# Altium footprint library PWR578A.PcbLib: 62 footprints (part 4 of 4)
Each footprint in its own frame and in the unit in brackets; x right, y up, seen from the top. Pads: shape width x height; smd on the part's side, far side on the other; paste and mask are expansions set on the pad; w line width, h text height; cw(c..) or ccw(c..) is an arc to the next point about the centre after c.
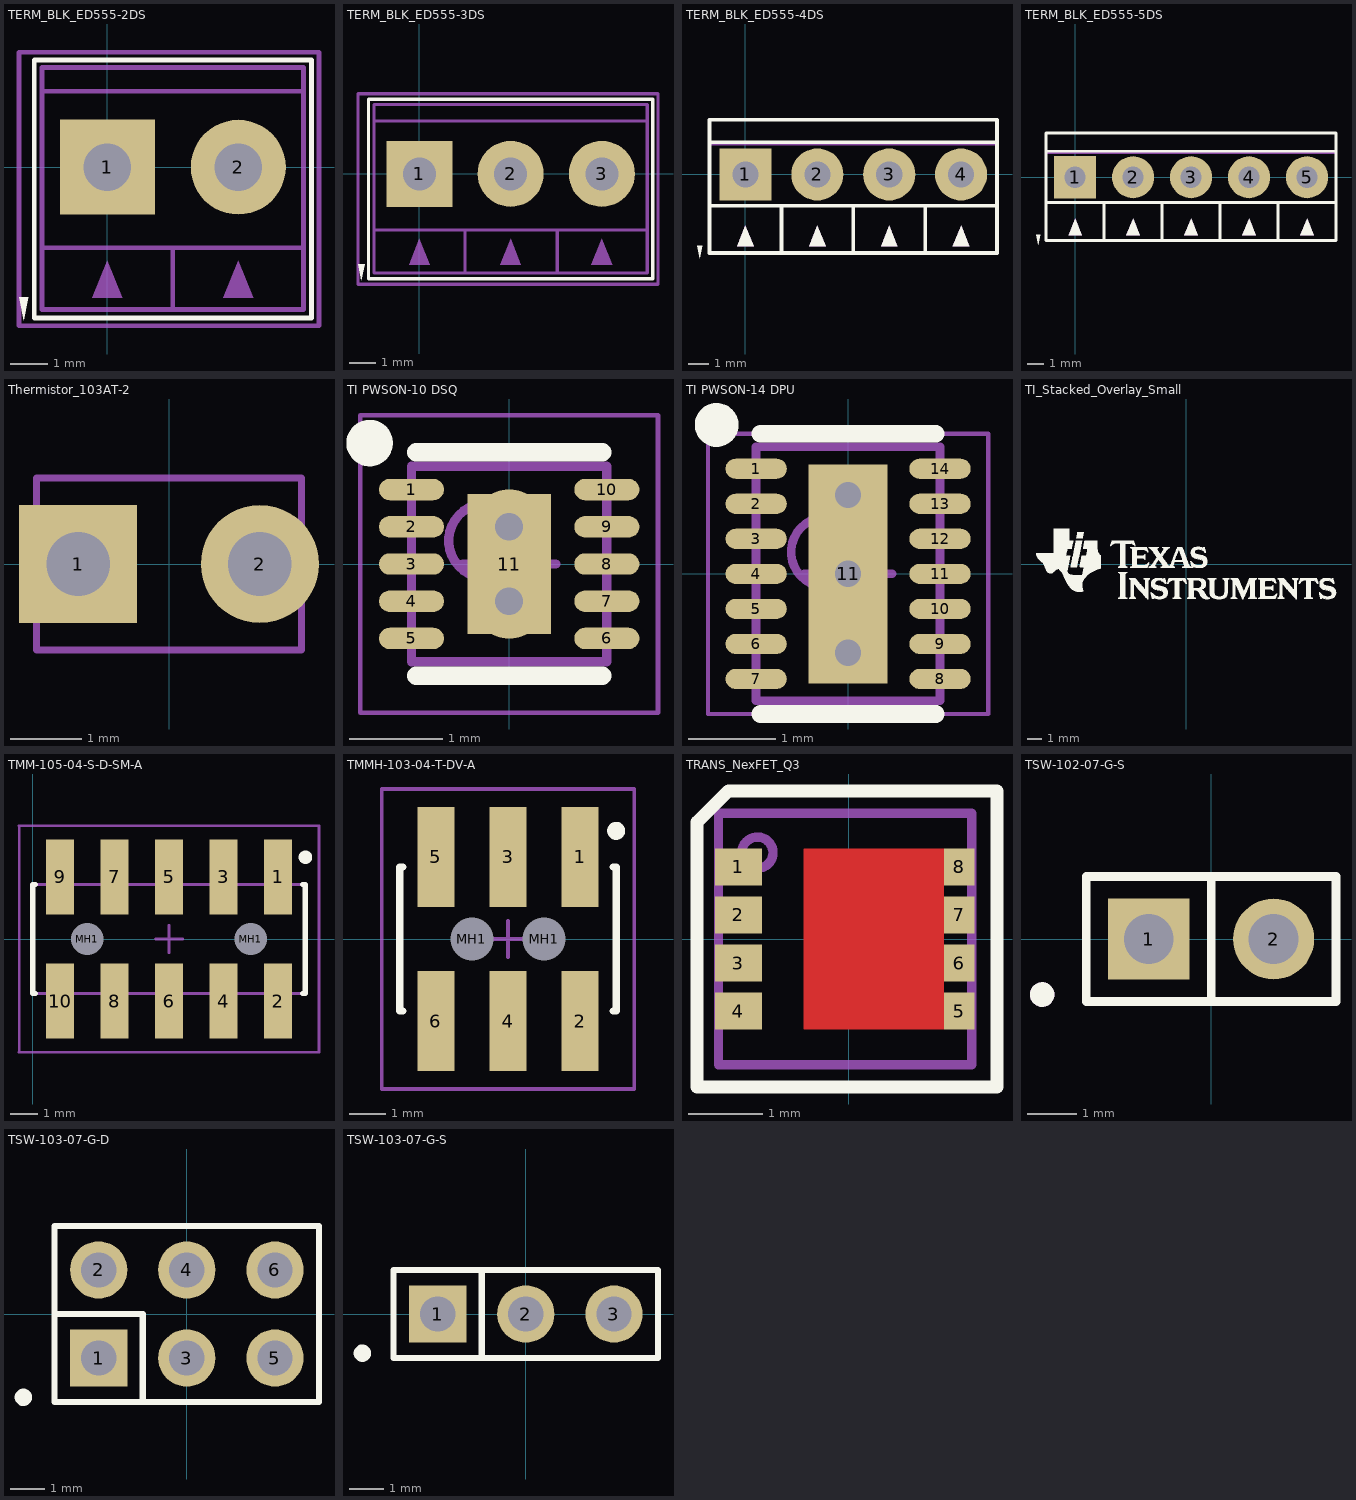
[diagram p3: the footprints below, top view; thin cyan lines are the x and y axes]

## TERM_BLK_ED555-2DS [mil]
pads (2):
  rect 100x100 hole 50: 1(0,0)
  round 100 hole 50: 2(138,0)
Top Overlay:
  region: -88,-161 -83,-137 -93,-137
  lines w5: -77,-159 215,-159 215,113 -77,113 -77,-159
Mechanical 5:
  region: 153.54,-137.8 122.05,-137.8 137.8,-98.43
  region: 15.75,-137.8 -15.75,-137.8 0,-98.43
  lines w5: -68.9,-85 206.69,-85 ; -68.9,80 206.69,80 ; 68.9,-150.2 68.9,-85 ; -68.9,-150 206.69,-150 206.69,105 -68.9,105 -68.9,-150
  text ".Designator" at -23.62,-23.62 h40
Mechanical 15:
  lines w5: -93,-167 223,-167 223,121 -93,121 -93,-167
3D body "On-Shore_ED555_2DS.stp": height 323.43, standoff -137.2, extent -68.7,-149.61 206.89,106.29

## TERM_BLK_ED555-3DS [mil]
pads (3):
  rect 100x100 hole 50: 1(0,0)
  round 100 hole 50: 2(138,0) 3(276,0)
Top Overlay:
  region: -88,-161 -83,-137 -93,-137
  lines w5: -77,-159 -77,113 352.99,113 352.99,-159 215,-159 -77,-159
Mechanical 5:
  region: 291.54,-137.8 260.05,-137.8 275.8,-98.43
  region: 15.75,-137.8 -15.75,-137.8 0,-98.43
  region: 153.54,-137.8 122.05,-137.8 137.8,-98.43
  lines w5: -68.9,-85 208.66,-85 ; -68.9,80 343.15,80 ; 68.9,-150.2 68.9,-85 ; 344.15,-85 208.66,-85 ; 208.66,-150 208.66,-85 ; 208.66,-150 -68.9,-150 -68.9,105 344.69,105 344.69,-150 208.66,-150
  text ".Designator" at -23.62,-23.62 h40
Mechanical 15:
  lines w5: -93,-167 -93,121 360.99,121 360.99,-167 -93,-167
3D body "On-Shore_ED555_2DS.stp": height 323.43, standoff -137.2, extent -68.7,-149.61 206.89,106.29
3D body "On-Shore_ED555_2DS.stp": height 323.43, standoff -137.2, extent 69.29,-149.62 344.88,106.28

## TERM_BLK_ED555-4DS [mm]
pads (4):
  rect 2.54x2.54 hole 1.27: 1(0,0)
  round 2.54 hole 1.27: 2(3.5,0) 3(7,0) 4(10.5,0)
Top Overlay:
  region: 0.4,-3.5 -0.4,-3.5 0,-2.5
  region: 3.9,-3.5 3.1,-3.5 3.5,-2.5
  region: -2.235,-4.089 -2.108,-3.48 -2.362,-3.48
  region: 7.4,-3.5 6.6,-3.5 7,-2.5
  region: 10.9,-3.5 10.1,-3.5 10.5,-2.5
  lines w0.178: -1.752,1.572 1.748,1.572 5.248,1.572 8.748,1.572 12.248,1.572 ; 1.75,-3.815 1.75,-1.528 ; 5.25,-3.815 5.25,-1.528 ; 5.25,-3.81 -1.75,-3.81 -1.75,2.667 5.25,2.667 ; 12.248,-3.828 8.748,-3.828 ; 12.248,-1.528 8.748,-1.528 ; 12.248,2.672 8.748,2.672 5.248,2.672 1.748,2.672 -1.752,2.672 -1.752,1.472 -1.752,-1.528 ; 12.25,-3.815 12.25,-1.528 12.25,1.472 12.25,2.672 ; -1.752,-1.528 1.748,-1.528 5.248,-1.528 8.748,-1.528 ; -1.752,-1.528 -1.752,-3.828 1.748,-3.828 5.248,-3.828 8.748,-3.828 ; 8.748,-3.828 8.748,-1.528 ; 8.748,-3.828 8.748,-1.528
Mechanical 5:
  region: 0.4,-3.5 -0.4,-3.5 0,-2.5
  region: 7.4,-3.5 6.6,-3.5 7,-2.5
  region: 3.9,-3.5 3.1,-3.5 3.5,-2.5
  region: 10.9,-3.5 10.1,-3.5 10.5,-2.5
  lines w0.127: 1.75,-3.815 1.75,-1.528 ; 5.25,-3.815 5.25,-1.528 ; 5.25,-3.81 -1.75,-3.81 -1.75,2.667 5.25,2.667 ; 8.75,-3.81 12.248,-3.81 ; 8.75,2.667 12.248,2.667 ; 12.248,-3.828 8.748,-3.828 ; 12.248,-1.528 8.748,-1.528 ; 12.248,1.472 8.748,1.472 5.248,1.472 1.748,1.472 -1.752,1.472 ; 12.248,2.672 8.748,2.672 5.248,2.672 1.748,2.672 -1.752,2.672 -1.752,1.472 ; 12.25,-3.815 12.25,-1.528 12.25,1.472 12.25,2.672 ; -1.752,-1.528 -1.752,1.472 ; -1.752,-1.528 1.748,-1.528 5.248,-1.528 8.748,-1.528 ; -1.752,-1.528 -1.752,-3.828 1.748,-3.828 5.248,-3.828 8.748,-3.828 ; 8.748,-3.828 8.748,-1.528
  text ".Designator" at 0.3,-0.3 h1.02
3D body "On-Shore_ED555_4DS.stp": height 8.2, standoff -3.5, extent -1.745,-3.8 12.255,2.7

## TERM_BLK_ED555-5DS [mm]
pads (5):
  rect 2.54x2.54 hole 1.27: 1(0,0)
  round 2.54 hole 1.27: 2(3.5,0) 3(7,0) 4(10.5,0) 5(14,0)
Top Overlay:
  region: 14.4,-3.5 13.6,-3.5 14,-2.5
  region: 7.4,-3.5 6.6,-3.5 7,-2.5
  region: 10.9,-3.5 10.1,-3.5 10.5,-2.5
  region: 3.9,-3.5 3.1,-3.5 3.5,-2.5
  region: -2.235,-4.089 -2.108,-3.48 -2.362,-3.48
  region: 0.4,-3.5 -0.4,-3.5 0,-2.5
  lines w0.178: -1.752,1.572 1.748,1.572 5.248,1.572 8.748,1.572 12.248,1.572 15.748,1.572 ; 1.75,-3.815 1.75,-1.528 ; 5.25,-3.815 5.25,-1.528 ; 5.25,-3.81 -1.75,-3.81 -1.75,2.667 5.25,2.667 ; 8.75,-3.81 15.75,-3.81 ; 8.75,2.667 15.75,2.667 ; 12.25,-3.815 12.25,-1.528 ; 15.748,-3.828 12.248,-3.828 8.748,-3.828 ; 15.748,-1.528 12.248,-1.528 8.748,-1.528 ; 15.748,2.672 12.248,2.672 8.748,2.672 5.248,2.672 1.748,2.672 -1.752,2.672 -1.752,1.472 -1.752,-1.528 ; 15.75,-3.815 15.75,-1.528 15.75,1.472 15.75,2.672 ; -1.752,-1.528 -1.752,-3.828 1.748,-3.828 5.248,-3.828 8.748,-3.828 ; -1.752,-1.528 1.748,-1.528 5.248,-1.528 8.748,-1.528 ; 8.748,-3.828 8.748,-1.528 ; 8.748,-3.828 8.748,-1.528
Mechanical 5:
  region: 14.4,-3.5 13.6,-3.5 14,-2.5
  region: 10.9,-3.5 10.1,-3.5 10.5,-2.5
  region: 7.4,-3.5 6.6,-3.5 7,-2.5
  region: 3.9,-3.5 3.1,-3.5 3.5,-2.5
  region: 0.4,-3.5 -0.4,-3.5 0,-2.5
  lines w0.127: 1.75,-3.815 1.75,-1.528 ; 5.25,-3.815 5.25,-1.528 ; 5.25,-3.81 -1.75,-3.81 -1.75,2.667 5.25,2.667 ; 8.75,-3.81 15.75,-3.81 ; 8.75,2.667 15.75,2.667 ; 12.25,-3.815 12.25,-1.528 ; 15.748,-3.828 12.248,-3.828 8.748,-3.828 ; 15.748,-1.528 12.248,-1.528 8.748,-1.528 ; 15.748,1.472 12.248,1.472 8.748,1.472 5.248,1.472 1.748,1.472 -1.752,1.472 ; 15.748,2.672 12.248,2.672 8.748,2.672 5.248,2.672 1.748,2.672 -1.752,2.672 -1.752,1.472 ; 15.75,-3.815 15.75,-1.528 15.75,1.472 15.75,2.672 ; -1.752,-1.528 -1.752,-3.828 1.748,-3.828 5.248,-3.828 8.748,-3.828 ; -1.752,-1.528 1.748,-1.528 5.248,-1.528 8.748,-1.528 ; -1.752,-1.528 -1.752,1.472 ; 8.748,-3.828 8.748,-1.528
  text ".Designator" at 0.3,-0.3 h1.02
3D body "On-Shore_ED555_5DS.stp": height 8.2, standoff -3.5, extent -1.745,-3.8 15.755,2.7

## Thermistor_103AT-2 [mil]
pads (2):
  rect 65x65 hole 35: 1(-50,0)
  round 65 hole 35: 2(50,0)
Mechanical 5:
  lines w3.94: -72.83,-47.24 72.83,-47.24 72.83,47.24 -72.83,47.24 -72.83,-47.24
  text ".Designator" at -69.88,-16.73 h30
3D body: height 236.22, standoff -78.74, extent 40.18,-9.82 59.82,9.82
3D body: height 236.22, standoff -78.74, extent -59.82,-9.82 -40.18,9.82
3D body: height 338.43, standoff 181.26, extent -78.11,-47.24 78.75,47.24

## TI PWSON-10 DSQ [mm] "DFN, 10-Leads, Body 2.00x2.00mm, Pitch 0.40mm, Thermal Pad 0.70x1.20mm, IPC Medium Density"
height 0.8
pads (11):
  oval 0.7x0.23 smd: 1(-1.05,0.8) 2(-1.05,0.4) 3(-1.05,0) 4(-1.05,-0.4) 5(-1.05,-0.8) 6(1.05,-0.8) 7(1.05,-0.4) 8(1.05,0) 9(1.05,0.4) 10(1.05,0.8)
  rect 0.9x1.5 smd mask-0.15: 11(0,0)
via 0,0.4 diameter 0.8 hole 0.3
via 0,-0.4 diameter 0.8 hole 0.3
Top Overlay:
  circle w0.25: c-1.5,1.3 r0.125
  lines w0.2: -1,-1.2 1,-1.2 ; -1,1.2 1,1.2
Mechanical 13:
  circle w0.1: c-0.25,0.25 r0.4
  lines w0.1: -1.05,-1.05 1.05,-1.05 1.05,1.05 -1.05,1.05 -1.05,-1.05
Mechanical 15:
  lines w0.05: -1.6,-1.6 1.6,-1.6 1.6,1.6 -1.6,1.6 -1.6,-1.6
  lines w0.1: -0.5,0 0.5,0 ; 0,-0.5 0,0.5
3D body: height 0.8, standoff 0.01, extent -1.05,-1.05 1.05,1.05

## TI PWSON-14 DPU [mm] "DPU, 14-Leads, Body 3.10x2.10mm, Pitch 0.40mm, Thermal Pad 2.50x0.90mm, IPC Medium Density"
height 0.8
pads (15):
  oval 0.7x0.23 smd: 1(-1.05,1.2) 2(-1.05,0.8) 3(-1.05,0.4) 4(-1.05,0) 5(-1.05,-0.4) 6(-1.05,-0.8) 7(-1.05,-1.2) 8(1.05,-1.2) 9(1.05,-0.8) 10(1.05,-0.4) 11(1.05,0) 12(1.05,0.4) 13(1.05,0.8) 14(1.05,1.2)
  rect 0.9x2.5 smd mask-0.15: 11(0,0)
via 0,0.9 diameter 0.7 hole 0.3
via 0,-0.9 diameter 0.7 hole 0.3
via 0,0 diameter 0.7 hole 0.3
Top Overlay:
  circle w0.25: c-1.5,1.7 r0.125
  lines w0.2: -1,-1.6 1,-1.6 ; -1,1.6 1,1.6
Mechanical 13:
  circle w0.1: c-0.25,0.25 r0.4
  lines w0.1: -1.05,-1.45 1.05,-1.45 1.05,1.45 -1.05,1.45 -1.05,-1.45
Mechanical 15:
  lines w0.05: -1.6,-1.6 1.6,-1.6 1.6,1.6 -1.6,1.6 -1.6,-1.6
  lines w0.1: -0.5,0 0.5,0 ; 0,-0.5 0,0.5
3D body: height 0.8, standoff 0.01, extent -1.05,-1.5 1.05,1.5

## TI_Stacked_Overlay_Small [mm]
Top Overlay:
  drawing of 18 lines, arcs and shapes, not listed

## TMM-105-04-S-D-SM-A [mm] "Connector, Socket Strip, Double Row, SMT, 10 Position, Vertical, Pitch 2mm, Body 10 x 4 mm (LxW)"
height 3.56
pads (12):
  rect 1.02x2.77 smd: 1(9,2.275) 2(9,-2.275) 3(7,2.275) 4(7,-2.275) 5(5,2.275) 6(5,-2.275) 7(3,2.275) 8(3,-2.275) 9(1,2.275) 10(1,-2.275)
  round 0.89 hole 1.19: MH1(2,0) MH1(7.999,0)
Top Overlay:
  circle w0.25: c10,3 r0.125
  lines w0.2: 0.09,-2 0,-2 0,2 0.09,2 ; 9.91,-2 10,-2 10,2 9.91,2
Mechanical 13:
  lines w0.1: 0,-2 0,2 10,2 10,-2 0,-2
Mechanical 15:
  lines w0.1: -0.508,-4.16 10.5,-4.16 10.5,4.16 -0.508,4.16 ; -0.5,-4.16 -0.5,4.16 ; 4.5,0 5.5,0 ; 5,-0.5 5,0.5
3D body "TMM-105-04-S-D-SM-A.stp": height 4.65, standoff -1.04, extent 0.003,-3.53 10.003,3.531

## TMMH-103-04-T-DV-A [mm] "Connector, Socket Strip, Double Row, SMT, 6 Position, Vertical, Pitch 2mm, Body 10 x 4 mm (LxW)"
height 3.56
pads (8):
  rect 1.02x2.77 smd: 1(9,2.275) 2(9,-2.275) 3(7,2.275) 4(7,-2.275) 5(5,2.275) 6(5,-2.275)
  round 0.89 hole 1.19: MH1(6,0) MH1(7.999,0)
Top Overlay:
  circle w0.25: c10,3 r0.125
  lines w0.2: 4.09,-2 4,-2 4,2 4.09,2 ; 9.91,-2 10,-2 10,2 9.91,2
Mechanical 13:
  lines w0.1: 4,-2 4,2 ; 10,-2 10,2
Mechanical 15:
  lines w0.1: 6.5,0 7.5,0 ; 7,-0.5 7,0.5 ; 3.5,-4.16 3.5,4.16 10.5,4.16 10.5,-4.16 3.5,-4.16
3D body "TMMH-103-04-G-DV-A.stp": height 3.91, standoff -1.78, extent 4,-3.518 10,3.518

## TRANS_NexFET_Q3 [mm]
pads (8):
  rect 0.63x0.5 smd mask+0.076: 1(-1.49,0.975) 2(-1.49,0.325) 3(-1.49,-0.325) 4(-1.49,-0.975)
  rect 0.41x0.5 smd mask+0.076: 5(1.49,-0.975) 6(1.49,-0.325) 7(1.49,0.325) 8(1.49,0.975)
Top Layer:
  rectangle: -0.615,-1.225 1.285,1.225
Top Overlay:
  lines w0.178: -2.05,-2 -2.05,0 -2.05,1.575 -1.625,2 0,2 2,2 2,0 2,-2 0,-2 -2.05,-2
Mechanical 5:
  circle w0.127: c-1.235,1.165 r0.211
  lines w0.127: -1.76,-1.7 -1.76,1.7 1.66,1.7 1.66,-1.7 -1.76,-1.7
  text ".Designator" at -1.395,-0.375 h0.76
3D body "TI_DQG8A.stp": height 1.11, standoff 0, extent -1.76,-1.7 1.66,1.7

## TSW-102-07-G-S [mm]
pads (2):
  rect 1.65x1.65 hole 1.016 mask+0: 1(-1.27,0)
  round 1.65 hole 1.016 mask+0: 2(1.27,0)
Top Overlay:
  circle w0.25: c-3.44,-1.13 r0.125
  lines w0.178: 0,-1.27 0,1.27 ; -2.54,-1.27 2.54,-1.27 2.54,1.27 -2.54,1.27 -2.54,-1.27
Mechanical 5:
  circle w0.25: c-3.44,-1.13 r0.125
  lines w0.127: -2.54,-1.27 -2.54,1.27 2.54,1.27 2.54,-1.27 -2.54,-1.27
  text ".Designator" at -1.524,-0.508 h1.02
3D body "SamtecTSW-07_2x1.stp": height 8.38, standoff -2.54, extent -2.54,-1.27 2.54,1.27

## TSW-103-07-G-D [mm]
pads (6):
  rect 1.65x1.65 hole 1.016 mask+0: 1(-2.54,-1.27)
  round 1.65 hole 1.016 mask+0: 2(-2.54,1.27) 3(0,-1.27) 4(0,1.27) 5(2.54,-1.27) 6(2.54,1.27)
Top Overlay:
  circle w0.25: c-4.71,-2.4 r0.125
  lines w0.178: -3.81,0 -1.27,0 -1.27,-2.54 ; -3.81,-2.54 3.81,-2.54 3.81,2.54 -3.81,2.54 -3.81,-2.54
Mechanical 5:
  rectangle: -3.048,-1.776 -2.032,-0.76
  lines w0.127: -3.81,-2.54 3.81,-2.54 3.81,2.54 -3.81,2.54 -3.81,-2.54
  text ".Designator" at -1.524,-0.508 h1.02
3D body "SamtecTSW-07_3x2.stp": height 8.38, standoff -2.54, extent -3.81,-2.54 3.81,2.54

## TSW-103-07-G-S [mm]
pads (3):
  rect 1.65x1.65 hole 1.016 mask+0: 1(-2.54,0)
  round 1.65 hole 1.016 mask+0: 2(0,0) 3(2.54,0)
Top Overlay:
  circle w0.25: c-4.71,-1.13 r0.125
  lines w0.178: -1.27,-1.27 -1.27,1.27 ; -3.81,-1.27 3.81,-1.27 3.81,1.27 -3.81,1.27 -3.81,-1.27
Mechanical 5:
  rectangle: -3.048,-0.508 -2.032,0.508
  lines w0.127: -3.81,-1.27 3.81,-1.27 3.81,1.27 -3.81,1.27 -3.81,-1.27
  text ".Designator" at -1.524,-0.508 h1.02
3D body "SamtecTSW-07_3x1.stp": height 8.38, standoff -2.54, extent -3.81,-1.27 3.81,1.27